# Altium footprint library PcbLib1.PcbLib: 37 footprints (part 2 of 3)
Each footprint in its own frame and in the unit in brackets; x right, y up, seen from the top. Pads: shape width x height; smd on the part's side, far side on the other; paste and mask are expansions set on the pad; w line width, h text height; cw(c..) or ccw(c..) is an arc to the next point about the centre after c.
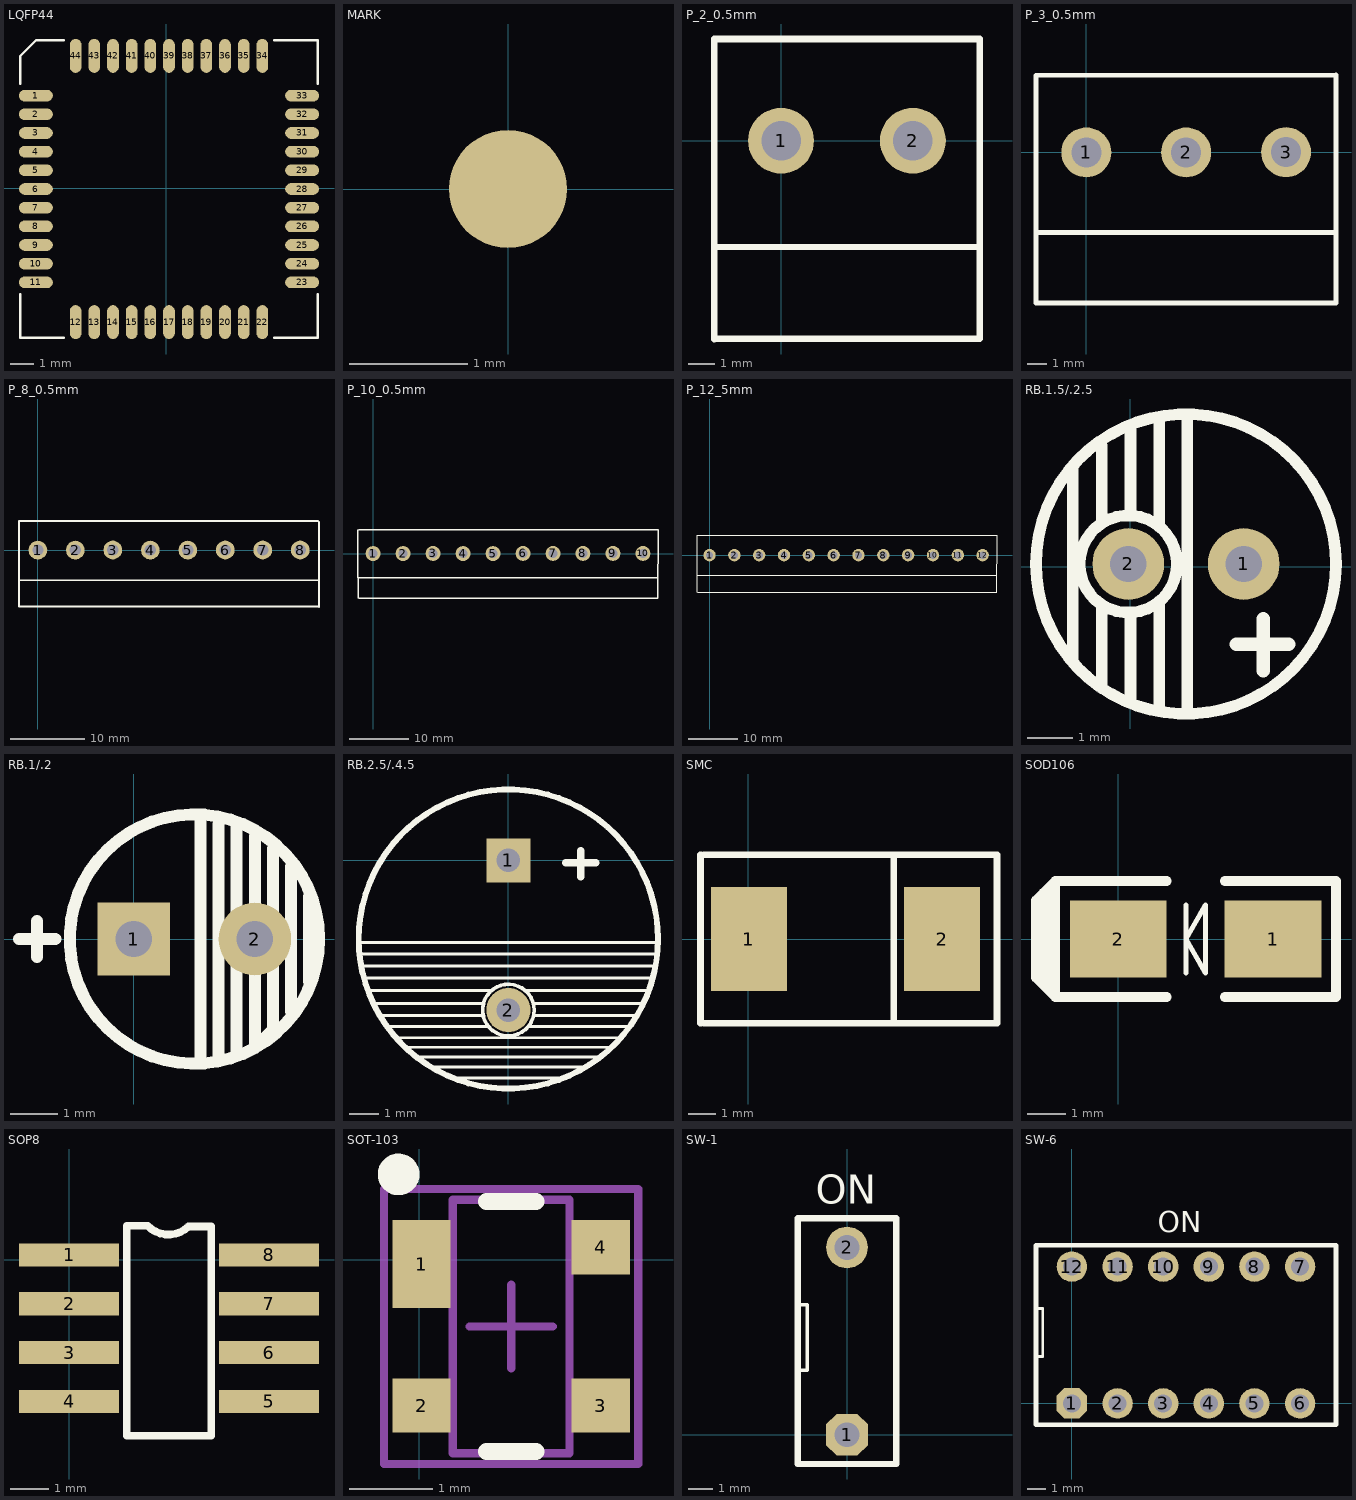
[diagram p1: the footprints below, top view; thin cyan lines are the x and y axes]

## LQFP44 [mm]
pads (44):
  oval 1.45x0.5 smd: 1(-5.588,3.962) 2(-5.588,3.162) 3(-5.588,2.362) 4(-5.588,1.562) 5(-5.588,0.762) 6(-5.588,-0.038) 7(-5.588,-0.838) 8(-5.588,-1.638) 9(-5.588,-2.438) 10(-5.588,-3.238) 11(-5.588,-4.038) 23(5.812,-4.038) 24(5.812,-3.238) 25(5.812,-2.438) 26(5.812,-1.638) 27(5.812,-0.838) 28(5.812,-0.038) 29(5.812,0.762) 30(5.812,1.562) 31(5.812,2.362) 32(5.812,3.162) 33(5.812,3.962)
  oval 0.5x1.45 smd: 12(-3.888,-5.738) 13(-3.088,-5.738) 14(-2.288,-5.738) 15(-1.488,-5.738) 16(-0.688,-5.738) 17(0.112,-5.738) 18(0.912,-5.738) 19(1.712,-5.738) 20(2.512,-5.738) 21(3.312,-5.738) 22(4.112,-5.738) 34(4.112,5.662) 35(3.312,5.662) 36(2.512,5.662) 37(1.712,5.662) 38(0.912,5.662) 39(0.112,5.662) 40(-0.688,5.662) 41(-1.488,5.662) 42(-2.288,5.662) 43(-3.088,5.662) 44(-3.888,5.662)
Top Overlay:
  lines w0.1: -6.263,-4.538 -6.263,-6.413 -4.388,-6.413 ; -6.263,4.462 -6.263,5.662 -5.588,6.337 -4.388,6.337 ; 4.612,-6.413 6.487,-6.413 6.487,-4.538 ; 4.612,6.337 6.487,6.337 6.487,4.462

## MARK [mm]
height 2.5
pads (2):
  round 1 smd: ""(0,0)
  round 2.54 on Top Solder: ""(0,0)

## P_2_0.5mm [mil]
pads (2):
  round 100 hole 60: 1(0,0) 2(200,0)
Top Overlay:
  lines w10: -101.18,-161.42 -101.18,-300.79 301.22,-300.35 301.22,154.33 -101.18,154.33 -101.18,-160.63 301.22,-161.77

## P_3_0.5mm [mil]
pads (3):
  round 100 hole 60: 1(0,0) 2(200,0) 3(400,0.39)
Top Overlay:
  lines w10: -100.39,-161.81 -100.39,-301.18 500,-301.18 500,154.58 -100.79,154.33 -100.79,-160.63 500,-160.63

## P_8_0.5mm [mil]
pads (8):
  round 100 hole 60: 1(0,0) 2(200,0) 3(400,0.39) 4(600,0) 5(800,0) 6(1000,0.39) 7(1200,0.39) 8(1400,0.39)
Top Overlay:
  lines w10: -100.39,-161.81 -100.39,-301.18 1497.76,-301.18 ; 1495,155 -100.79,154.33 -100.79,-160.63 1500,-160.63 ; 1500,-303.43 1500,150

## P_10_0.5mm [mil]
pads (10):
  round 100 hole 60: 1(0,0) 2(200,0) 3(400,0.39) 4(600,0) 5(800,0) 6(1000,0.39) 7(1200,0.39) 8(1400,0.39) 9(1600,0.79) 10(1800,0.39)
Top Overlay:
  lines w10: -100.79,160 -100.79,-160.63 1899.85,-160.11 ; -100.39,-299.62 -100.39,-161.81 ; -95,-300 1899.63,-300 1900.34,160 -95,160

## P_12_5mm [mil]
pads (12):
  round 100 hole 60: 1(0,0) 2(200,0) 3(400,0.39) 4(600,0) 5(800,0) 6(1000,0.39) 7(1200,0.39) 8(1400,0.39) 9(1600,0.79) 10(1800,0.39) 11(2000,0.79) 12(2200,0.39)
Top Overlay:
  lines w10: -100.79,160 -100.79,-160.63 2315,-160 ; -100.39,-299.62 -100.39,-161.81 ; -95,-300 2315,-300 ; -95,160 2315.71,160 2315,-301.47

## RB.1.5/.2.5 [mm]
pads (2):
  round 1.575 hole 0.8: 1(2.492,0.065) 2(-0.048,0.065)
Top Overlay:
  circle w0.254: c1.222,0.065 r3.302
  circle w0.254: c-0.048,0.065 r1.071
  lines w0.254: -1.27,-2.032 -1.27,2.159 ; -0.635,-2.667 -0.635,-0.889 ; -0.635,1.016 -0.635,2.667 ; 0,-2.921 0,-1.016 ; 0,1.27 0,3.048 ; 0.635,-3.175 0.635,-0.762 ; 0.635,0.94 0.635,3.175 ; 1.254,-3.175 1.254,3.302
  lines w0.305: 2.337,-1.702 3.48,-1.702 ; 2.921,-2.286 2.921,-1.143

## RB.1/.2 [mil]
pads (2):
  rect 60x60 hole 30: 1(0,0)
  round 60 hole 30: 2(100,0)
Top Overlay:
  circle w10: c50,0 r103.08
  lines w10: -95,0 -65,0 ; -80,-15 -80,15 ; 55,-100 55,100 ; 70,-100 70,95 ; 85,-95 85,95 ; 100,85 100,-90 115,-75 115,75 ; 130,-60 130,-55 130,60 ; 145,-35 145,35

## RB.2.5/.4.5 [mm]
pads (2):
  rect 1.5x1.5 hole 0.8: 1(0,0)
  round 1.5 hole 0.8: 2(0,-5.08)
Top Overlay:
  circle w0.203: c0,-2.667 r5.08
  circle w0.127: c0,-5.08 r0.876
  lines w0.102: -5.105,-2.794 5.08,-2.794 ; -5.08,-3.175 5.08,-3.175 ; -5.004,-3.581 4.978,-3.581 ; -4.877,-3.988 4.902,-3.988 ; -4.801,-4.42 -0.61,-4.42 ; -4.572,-4.851 -0.864,-4.851 ; -4.318,-5.258 -0.889,-5.258 ; -4.115,-5.639 -0.711,-5.639 ; -3.81,-6.02 3.81,-6.02 ; -3.531,-6.339 3.454,-6.348 ; -3.099,-6.68 3.124,-6.68 ; -2.642,-7.01 2.591,-7.01 ; -1.829,-7.391 1.829,-7.391 ; 0.584,-4.42 4.75,-4.42 ; 0.686,-5.639 4.064,-5.639 ; 0.864,-4.851 4.597,-4.851 ; 0.889,-5.258 4.369,-5.258
  lines w0.254: 1.956,-0.076 2.972,-0.076 ; 2.464,-0.559 2.464,0.33

## SMC [mil]
pads (2):
  rect 110x150 smd: 1(0.48,0.14) 2(280.48,0.14)
Top Overlay:
  lines w10: -69.52,-121.86 -69.52,122.14 ; -64.52,-121.86 360,-121.86 360,122.14 -64.52,122.14 ; 210.48,-121.86 210.48,122.14

## SOD106 [mil]
pads (2):
  rect 100x80 smd: 1(160,0) 2(0,0)
Top Overlay:
  lines w5: 70,-35 70,35 ; 70,0 90,-35 90,35 70,0
  lines w10: -77.52,-46.99 -77.52,47.48 ; -73,-50.5 -73,52 ; 50,-60 -65,-60 ; 50,60 -65,60 ; 110,-60 225,-60 225,60 110,60 ; -65,-60 -85,-40 -85,40 -65,60 ; -65,-60 -65,60
3D body: height 94.57, standoff -0.12, extent -22.36,-52.36 182.36,50

## SOP8 [mm] "Small Outline; 8 Leads; Body Width 4.3 mm; Pitch 1.27 mm"
height 1.5
pads (8):
  rect 2.6x0.6 smd: 1(-0.009,0.127) 2(-0.009,-1.143) 3(-0.009,-2.413) 4(-0.009,-3.683) 5(5.191,-3.683) 6(5.191,-2.413) 7(5.191,-1.143) 8(5.191,0.127)
Top Overlay:
  lines w0.2: 1.491,-4.572 1.491,0.889 2.032,0.889 ccw(c2.578,1.41) 3.099,0.864 3.691,0.864 3.691,-4.572 1.491,-4.572

## SOT-103 [mm]
pads (4):
  rect 0.7x1.05 smd: 1(0.025,-0.05)
  rect 0.7x0.65 smd: 2(0.025,-1.75) 3(2.175,-1.75) 4(2.175,0.15)
Top Overlay:
  circle w0.25: c-0.25,1.025 r0.125
  lines w0.2: 0.8,-2.3 1.4,-2.3 ; 0.8,0.7 1.4,0.7
Mechanical 13:
  lines w0.1: 0.4,-2.32 0.4,0.72 1.8,0.72 1.8,-2.32 0.4,-2.32
Mechanical 15:
  lines w0.1: 0.6,-0.8 1.6,-0.8 ; 1.1,-1.3 1.1,-0.3 ; -0.425,-2.45 -0.425,0.85 2.625,0.85 2.625,-2.45 -0.425,-2.45
3D body: height 1.2, standoff 0, extent 0.4,-2.32 1.8,0.72

## SW-1 [mm]
pads (2):
  oct 1.7x1.7 hole 1: 1(0,0)
  round 1.7 hole 1: 2(0,7.62)
Top Overlay:
  lines w0.152: -2,2.62 -1.619,2.62 -1.619,5.287 -2,5.287
  lines w0.254: -2,-1.19 2,-1.19 2,8.81 -2,8.81 -2,-1.19
  text "ON" at -1.27,9.017 h2

## SW-6 [mm]
pads (12):
  oct 1.7x1.7 hole 1: 1(0,0)
  round 1.7 hole 1: 2(2.54,0) 3(5.08,0) 4(7.62,0) 5(10.16,0) 6(12.7,0) 7(12.7,7.62) 8(10.16,7.62) 9(7.62,7.62) 10(5.08,7.62) 11(2.54,7.62) 12(0,7.62)
Top Overlay:
  lines w0.152: -2,2.62 -1.619,2.62 -1.619,5.287 -2,5.287
  lines w0.254: -2,-1.19 14.7,-1.19 14.7,8.81 -2,8.81 -2,-1.19
  text "ON" at 4.788,9.152 h2